# Altium footprint library SnapEDApcb.PcbLib: 1 footprints
Each footprint in its own frame and in the unit in brackets; x right, y up, seen from the top. Pads: shape width x height; smd on the part's side, far side on the other; paste and mask are expansions set on the pad; w line width, h text height; cw(c..) or ccw(c..) is an arc to the next point about the centre after c.
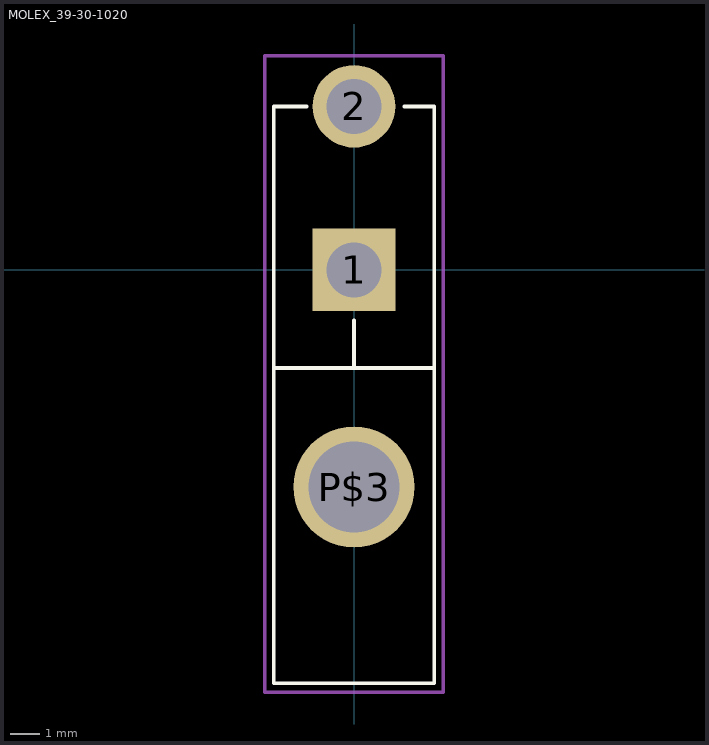
[diagram p0: the footprint, top view; thin cyan lines are the x and y axes]

## MOLEX_39-30-1020 [mm]
pads (3):
  rect 2.775x2.775 hole 1.85: 1(0,0)
  round 2.775 hole 1.85: 2(0,5.5)
  round 4.066 hole 3.05: P$3(0,-7.3)
Top Overlay:
  lines w0.127: -1.6,5.5 -2.7,5.5 -2.7,-3.3 ; 0,-1.7 0,-3.3 ; 1.7,5.5 2.7,5.5 2.7,-3.3 ; -2.7,-3.3 -2.7,-13.9 2.7,-13.9 2.7,-3.3 ; -2.7,-3.3 0,-3.3 ; 0,-3.3 2.7,-3.3
Mechanical 15:
  lines w0.127: -3,-14.2 -3,7.2 3,7.2 3,-14.2 -3,-14.2